# Altium schematic symbol library EVP-ADK04K.SchLib: 1 symbol
Pins are listed as number, name and electrical type; pins without a type are passive.

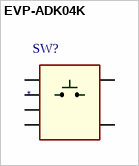
[diagram p0: symbol EVP-ADK04K]

## EVP-ADK04K
designator SW?
ID: EVP-ADK04K; PDF: http://industrial.panasonic.com/www-data/pdf/ATK0000/ATK0000CE29.pdf; PRICE: 1.62000; BUY_LINK: http://www.digikey.com/product-detail/en/EVP-ADK04K/P15920SCT-ND/3873287
footprint EVP-ADK04K
pins: A1, A2, A3, A4, B1, B2